# Altium footprint library 晶体.PcbLib: 9 footprints
Each footprint in its own frame and in the unit in brackets; x right, y up, seen from the top. Pads: shape width x height; smd on the part's side, far side on the other; paste and mask are expansions set on the pad; w line width, h text height; cw(c..) or ccw(c..) is an arc to the next point about the centre after c.
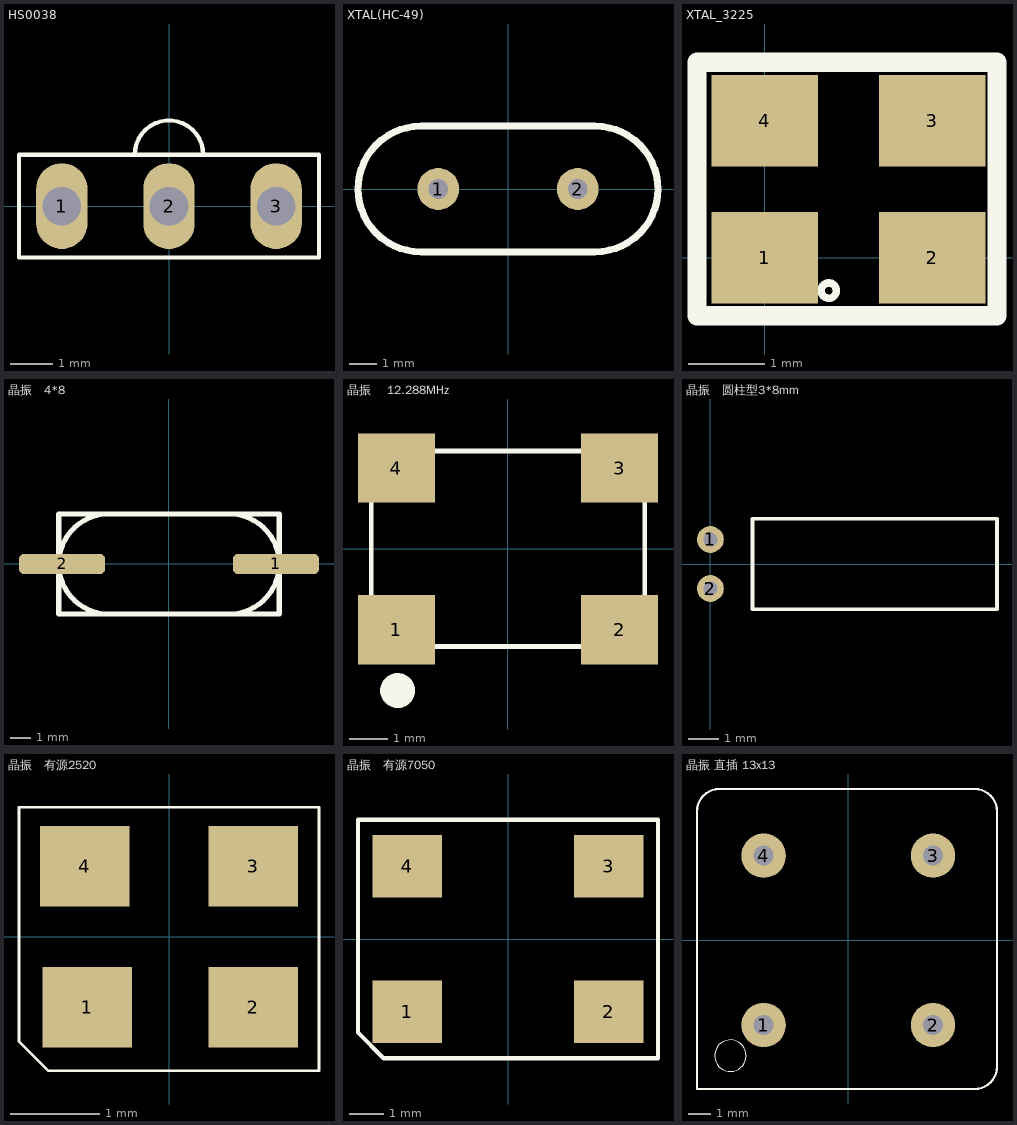
[diagram p0: the footprints below, top view; thin cyan lines are the x and y axes]

## HS0038 [mm]
pads (3):
  oval 1.2x2 hole 0.9: 1(-2.5,0) 2(0,0) 3(2.5,0)
Top Overlay:
  lines w0.1: -0.8,1.2 cw(c0,1.2) 0.8,1.2 ; -3.5,-1.2 -3.5,1.2 -2.5,1.2 2.5,1.2 3.5,1.2 3.5,-1.2 2.5,-1.2 -2.5,-1.2 -3.5,-1.2
3D body "HS0038.step": height 15.9, standoff -3, extent -3.4,0 3.4,19.3

## XTAL(HC-49) [mil]
pads (2):
  round 60 hole 28: 1(-100,0) 2(100,0)
Top Overlay:
  lines w10: -125,-90 cw(c-125,0) -125,90 125,90 cw(c125,0) 125,-90 -125,-90
3D body "User Library-HC-49-1.step": height 137.8, standoff -88.58, extent -220.47,-90.54 220.48,90.56

## XTAL_3225 [mm]
pads (4):
  rect 1.4x1.2 smd: 1(0,0) 2(2.2,0) 3(2.2,1.8) 4(0,1.8)
Top Overlay:
  circle w0.1: c0.84,-0.432 r0.1
  lines w0.254: -0.889,-0.762 3.048,-0.762 3.048,2.286 3.048,2.565 -0.889,2.565 -0.889,-0.635 -0.889,-0.762
3D body "xtal_SX3225.step": height 0.81, standoff 0, extent -0.457,-0.305 2.743,2.195

## 晶振   4*8 [mil]
pads (2):
  rrect50% 169.29x40 smd: 1(210,0) 2(-210,0)
Top Overlay:
  lines w10: -118,-98.42 cw(c-118,0) -118,98.42 ; 118,-98.42 ccw(c118,0) 118,98.42 ; -216.54,-98.43 -216.54,98.43 216.54,98.43 216.54,-98.43 -216.54,-98.43
3D body "User Library-Crystal HC49_US-SM.STEP": height 169.29, standoff 0, extent -251.97,-95.08 251.97,95.08

## 晶振    12.288MHz [mm]
pads (4):
  rect 2x1.8 smd: 1(-2.9,-2.1) 2(2.9,-2.1) 3(2.9,2.1) 4(-2.9,2.1)
Top Overlay:
  circle w0.5: c-2.87,-3.683 r0.203
  lines w0.127: -3.556,-2.54 -3.556,2.54 3.556,2.54 3.556,-2.54 -3.556,-2.54
3D body "晶振  12.28": height 1.4, standoff -0.05, extent -3.5,-2.515 3.5,2.485

## 晶振   圆柱型3*8mm [mil] "3*8MM"
pads (2):
  round 35 hole 18: 1(0,32) 2(0,-32)
Top Overlay:
  lines w5: 55.12,-59.06 374.02,-59.06 374.02,59.06 55.12,59.06 55.12,-59.06
3D body "晶?": height 118.11, standoff -98.43, extent -5.9,-59.06 370.08,59.05

## 晶振   有源2520 [mm]
pads (4):
  rect 1x0.9 smd: 1(-0.914,-0.787) 2(0.94,-0.787) 3(0.94,0.787) 4(-0.94,0.787)
Top Overlay:
  lines w0.03: -1.676,-1.168 -1.346,-1.499 1.676,-1.499 1.676,1.448 -1.676,1.448 -1.676,-1.168

## 晶振   有源7050 [mm]
pads (4):
  rect 2x1.8 smd: 1(-2.9,-2.1) 2(2.9,-2.1) 3(2.9,2.1) 4(-2.9,2.1)
Top Overlay:
  lines w0.127: -4.318,-2.692 -3.581,-3.429 4.318,-3.429 4.318,3.429 -4.318,3.429 -4.318,-2.692
3D body "晶振  12.28": height 1.4, standoff -0.05, extent -3.5,-2.515 3.5,2.485

## 晶振 直插 13x13 [mm]
pads (4):
  round 2 hole 0.9: 1(-3.81,-3.81) 2(3.81,-3.81) 3(3.81,3.81) 4(-3.81,3.81)
Top Overlay:
  circle w0.051: c-5.31,-5.19 r0.707
  lines w0.1: -6.81,-6.69 5.19,-6.69 5.69,-6.69 ccw(c5.69,-5.69) 6.69,-5.69 6.69,5.81 ccw(c5.69,5.81) 5.69,6.81 -5.81,6.81 ccw(c-5.81,5.81) -6.81,5.81 -6.81,-6.69
3D body "User Library-OSC_DIP-8.step": height 5.1, standoff -1.5, extent -6.35,-6.35 6.35,6.35